# Altium footprint library default.PcbLib: 40 footprints (part 2 of 3)
Each footprint in its own frame and in the unit in brackets; x right, y up, seen from the top. Pads: shape width x height; smd on the part's side, far side on the other; paste and mask are expansions set on the pad; w line width, h text height; cw(c..) or ccw(c..) is an arc to the next point about the centre after c.
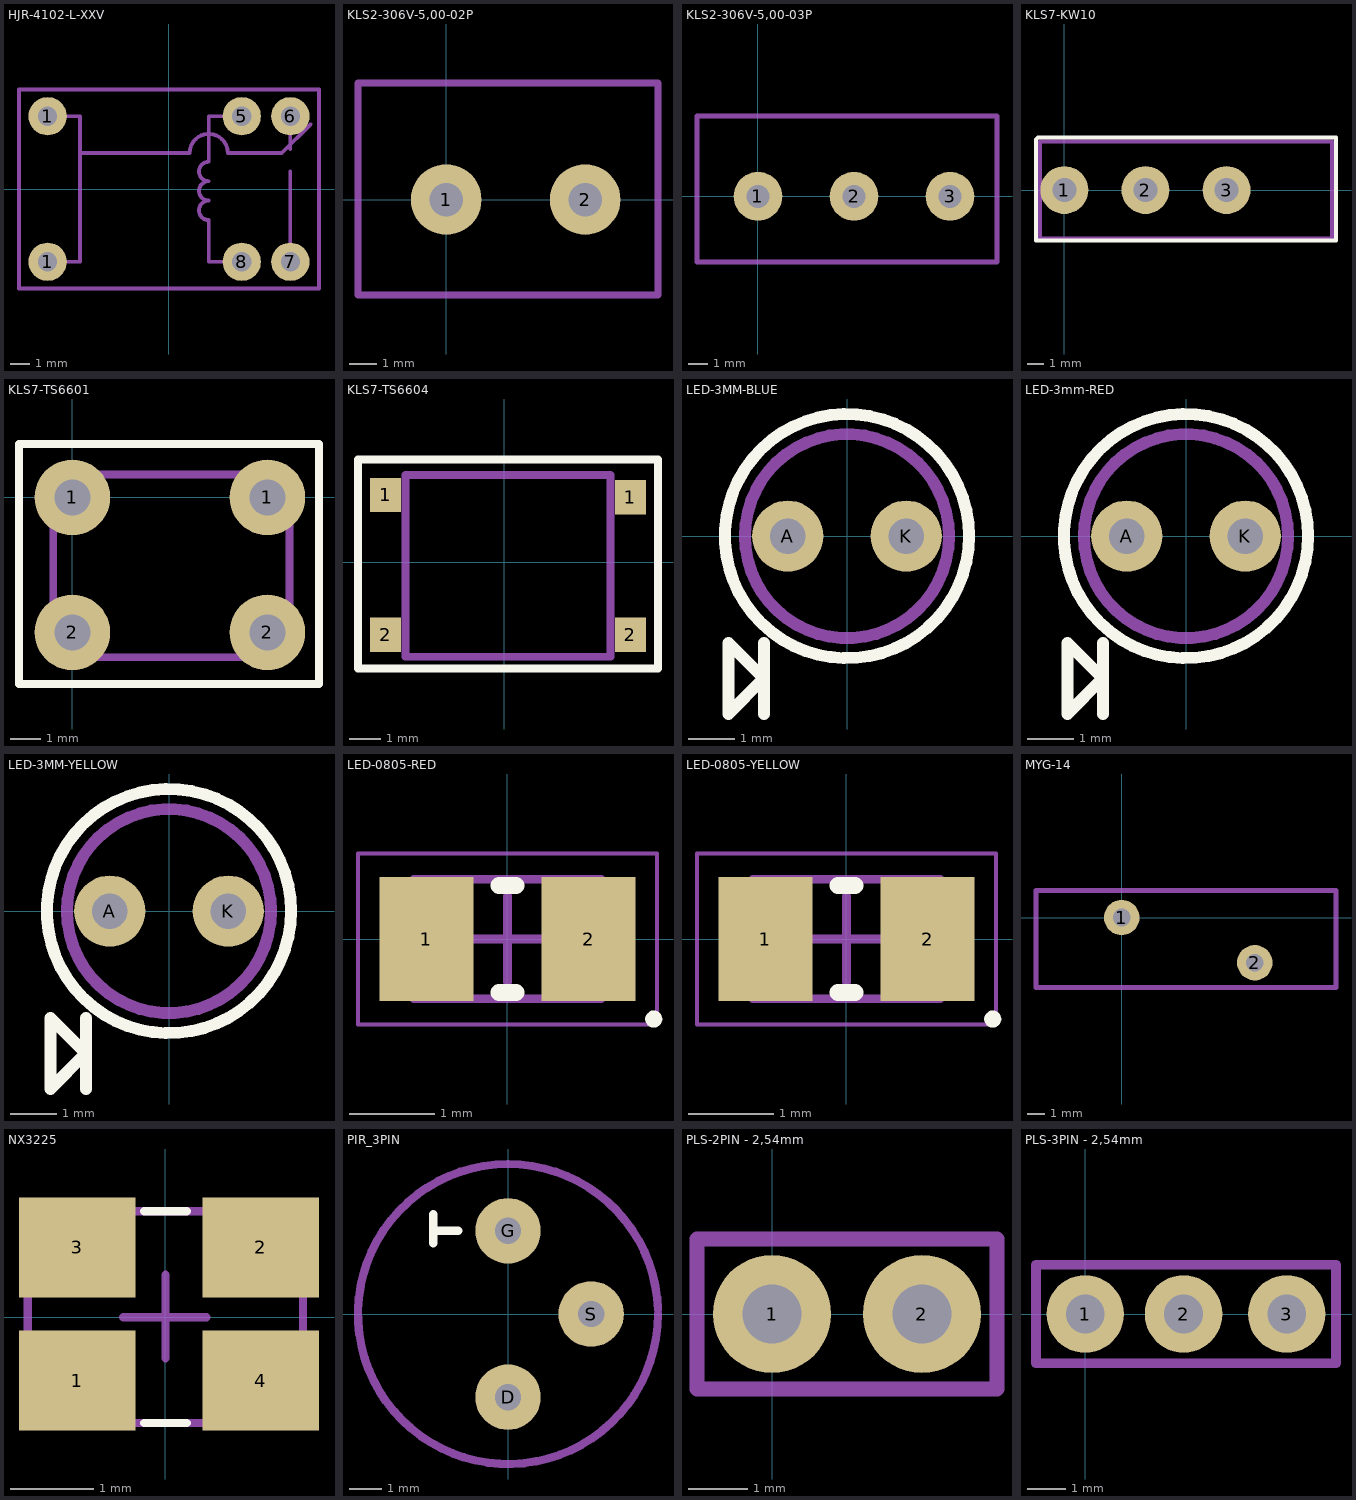
[diagram p1: the footprints below, top view; thin cyan lines are the x and y axes]

## HJR-4102-L-XXV [mm]
pads (6):
  round 2 hole 1: 1(-6.35,-3.81) 1(-6.35,3.81) 5(3.81,3.81) 6(6.35,3.81) 7(6.35,-3.81) 8(3.81,-3.81)
Top Assembly:
  lines w0.2: -5.39,-3.81 -4.65,-3.81 -4.65,1.884 ; -5.39,3.81 -4.65,3.81 -4.65,1.884 ; 2.85,-3.81 2.08,-3.81 2.08,-2.259 2.08,-1.624 cw(c2.08,-1.116) 2.08,-0.608 cw(c2.08,-0.1) 2.08,0.408 cw(c2.08,0.916) 2.08,1.424 2.08,2.059 2.08,3.81 2.85,3.81 ; 6.35,-2.85 6.35,0.916 ; 6.35,2.08 6.35,2.85 ; 7.4,3.384 5.9,1.884 3.08,1.884 ccw(c2.08,1.884) 1.08,1.884 -4.65,1.884 ; -7.85,-5.2 -7.85,5.2 7.85,5.2 7.85,-5.2 -7.85,-5.2
  text "COM" at -5.85,2.8 h0.3
  text "NO" at 5.334,-2.54 h0.3
  text "NC" at 5.207,2.413 h0.3
Top Courtyard:
  lines w0.05: -7.85,-5.2 -7.85,5.2 7.85,5.2 7.85,-5.2 -7.85,-5.2
Top Designator:
  text ".Designator" at -4.999,-0.233 h0.7
3D body "User Library-HJR-4102.step": height 11.8, standoff -2.14, extent -7.85,-5.1 7.85,5.3

## KLS2-306V-5,00-02P [mm]
pads (2):
  round 2.54 hole 1.2: 1(0,0) 2(5,0)
Top Courtyard:
  lines w0.254: -3.175,-3.429 -3.175,4.191 7.62,4.191 7.62,-3.429 -3.175,-3.429
3D body "User Library-DG301-5_0-2P12.STEP": height 10, standoff -4.16, extent -3.1,-3.4 7.5,4.2

## KLS2-306V-5,00-03P [mm]
pads (3):
  round 2.54 hole 1.2: 1(0,0) 2(5,0) 3(10,0)
Top Courtyard:
  lines w0.254: -3.175,-3.429 12.446,-3.429 12.446,4.191 -3.175,4.191 -3.175,-3.429
3D body "DG301-5_0-3P12.STEP": height 10, standoff -4.16, extent -3.101,-3.409 12.499,4.191

## KLS7-KW10 [mm]
pads (3):
  round 3 hole 1.5: 1(0,0) 2(5.08,0) 3(10.16,0)
Top Overlay:
  lines w0.254: -1.778,-3.175 -1.778,3.175 -1.746,3.207 -1.683,3.27 -1.651,3.302 17.018,3.302 17.018,-3.175 -1.778,-3.175
Mechanical 13:
  lines w0.254: -1.524,-3.048 16.764,-3.048 16.764,3.048 -1.524,3.048 -1.524,-3.048
3D body "User Library-DM3-03P.step": height 12.14, standoff -3.5, extent -1.32,-2.9 16.724,2.9

## KLS7-TS6601 [mm] "button"
pads (4):
  round 2.524 hole 1.2: 1(0,0) 1(6.5,0) 2(0,-4.5) 2(6.5,-4.5)
Top Overlay:
  lines w0.254: -1.778,-6.222 -1.778,1.778 8.222,1.778 8.222,-6.222 -1.778,-6.222
Mechanical 13:
  lines w0.254: -0.635,-5.334 -0.635,0.762 7.239,0.762 7.239,-5.334 -0.635,-5.334
3D body "switch button.stp": height 9.5, standoff -3.5, extent -0.648,-5.386 7.252,0.814

## KLS7-TS6604 [mm]
pads (4):
  rect 1x1.1 smd: 1(-3.81,2.159) 1(4.064,2.087) 2(-3.81,-2.341) 2(4.064,-2.341)
Top Overlay:
  lines w0.254: -4.699,-3.429 -4.699,3.302 -4.445,3.302 4.953,3.302 4.953,-3.429 -4.699,-3.429
Mechanical 13:
  lines w0.254: -3.175,-3.048 3.429,-3.048 3.429,2.794 -3.175,2.794 -3.175,-3.048
3D body "SMD button 6x6.STEP": height 4.3, standoff 0, extent -4.373,-3.079 4.627,2.921

## LED-3MM-BLUE [mil]
pads (2):
  round 60 hole 30: A(-50,0) K(50,0)
Top Overlay:
  circle w10: c0,0 r102.96
  lines w10: -70,-150 -70,-90 ; -100,-150 -70,-120 -100,-90 -100,-150
Mechanical 13:
  circle w10: c0,0 r86.02
3D body "everlight-3MM-LED-BLUE.STEP": height 300.65, standoff -194.14, extent -70,-79.61 64.88,70

## LED-3mm-RED [mil]
pads (2):
  round 60 hole 30: A(-50,0) K(50,0)
Top Overlay:
  circle w10: c0,0 r102.96
  lines w10: -70,-150 -70,-90 ; -100,-150 -100,-90 -70,-120 -100,-150
Mechanical 13:
  circle w10: c0,0 r86.02
3D body "everlight-3MM-LED-RED.STEP": height 300.65, standoff -194.14, extent -67.44,-70 67.44,79.61

## LED-3MM-YELLOW [mil]
pads (2):
  round 60 hole 30: A(-50,0) K(50,0)
Top Overlay:
  circle w10: c0,0 r102.96
  lines w10: -70,-150 -70,-90 ; -100,-150 -100,-90 -70,-120 -100,-150
Mechanical 13:
  circle w10: c0,0 r86.02
3D body "everlight-3MM-LED-YELLOW.STEP": height 300.65, standoff -194.14, extent -74.88,-79.61 60,70

## LED-0805-RED [mm]
height 0.6
pads (2):
  rect 1.1x1.45 smd: 1(-0.95,0) 2(0.95,0)
Top Overlay:
  circle w0.1: c1.712,-0.937 r0.05
  lines w0.2: -0.1,-0.625 0.1,-0.625 ; -0.1,0.625 0.1,0.625
Mechanical 13:
  lines w0.1: -1.1,-0.7 1.1,-0.7 1.1,0.7 -1.1,0.7 -1.1,-0.7
Mechanical 15:
  lines w0.05: -1.75,-1 1.75,-1 1.75,1 -1.75,1 -1.75,-1
  lines w0.1: -0.5,0 0.5,0 ; 0,-0.5 0,0.5
3D body "everlight-17-21-0805LED-red.STEP": height 1.1, standoff -0.01, extent -1,-0.625 1,0.625

## LED-0805-YELLOW [mm]
height 0.6
pads (2):
  rect 1.1x1.45 smd: 1(-0.95,0) 2(0.95,0)
Top Overlay:
  circle w0.1: c1.712,-0.937 r0.05
  lines w0.2: -0.1,-0.625 0.1,-0.625 ; -0.1,0.625 0.1,0.625
Mechanical 13:
  lines w0.1: -1.1,-0.7 -1.1,0.7 1.1,0.7 1.1,-0.7 -1.1,-0.7
Mechanical 15:
  lines w0.05: -1.75,-1 -1.75,1 1.75,1 1.75,-1 -1.75,-1
  lines w0.1: -0.5,0 0.5,0 ; 0,-0.5 0,0.5
3D body "everlight-17-21-0805LED-YELLOW.STEP": height 1.1, standoff -0.01, extent -1.1,-0.625 0.9,0.625

## MYG-14 [mm]
pads (2):
  round 2 hole 1: 1(0,0) 2(7.493,-2.54)
Top Assembly:
  lines w0.254: -4.826,-3.937 -4.826,1.524 12.065,1.524 12.065,-3.937 -4.826,-3.937
3D body "User Library-Varistor 14mm.STEP": height 20.5, standoff -2.5, extent -4.817,-4.07 12.183,1.53

## NX3225 [mm]
pads (4):
  rect 1.4x1.2 smd: 1(-1.057,-0.762) 2(1.143,0.838) 3(-1.057,0.838) 4(1.143,-0.762)
Top Overlay:
  lines w0.1: -0.254,-1.27 0.254,-1.27 ; -0.254,1.27 0.254,1.27
Top Assembly:
  lines w0.1: -0.508,0 0.492,0 ; 0,-0.492 0,0.508 ; -1.651,-1.27 -1.651,1.27 1.651,1.27 1.651,-1.27 -1.651,-1.27
Top Courtyard:
  lines w0.1: -1.651,-1.27 -1.651,1.27 1.651,1.27 1.651,-1.27 -1.651,-1.27
3D body "User Library-Crystal_ECX-32.STEP": height 0.82, standoff 0, extent -1.6,-1.25 1.6,1.25

## PIR_3PIN [mm]
pads (3):
  round 2 hole 0.8: D(0,-2.54) G(0,2.54) S(2.54,0)
Top Overlay:
  lines w0.254: -2.286,2.159 -2.286,3.048 -2.286,2.54 -1.524,2.54
Top Assembly:
  lines w0.254: 4.579,0.127 ccw(c0,0) 4.581,0
3D body "User Library-PIR_S_Orginal.step": height 4.8, standoff -1.9, extent -4.55,-4.55 4.55,4.55

## PLS-2PIN - 2,54mm [mm]
pads (2):
  round 2 hole 1: 1(0,0) 2(2.54,0)
Top Courtyard:
  lines w0.254: -1.27,-1.27 3.81,-1.27 3.81,1.27 -1.27,1.27 -1.27,-1.27
3D body "User Library-PLS-2.STEP": height 8.54, standoff -3, extent -1.27,-1.27 3.81,1.27

## PLS-3PIN - 2,54mm [mm]
pads (3):
  round 2 hole 1: 1(0,0) 2(2.54,0) 3(5.207,0)
Top Courtyard:
  lines w0.254: -1.27,-1.27 6.477,-1.27 6.477,1.27 -1.27,1.27 -1.27,-1.27
3D body "User Library-PLS3-1.STEP": height 8.01, standoff -2.79, extent -1.207,-1.27 6.413,1.27